# Altium footprint library NPN_S8050.PcbLib: 1 footprints
Each footprint in its own frame and in the unit in brackets; x right, y up, seen from the top. Pads: shape width x height; smd on the part's side, far side on the other; paste and mask are expansions set on the pad; w line width, h text height; cw(c..) or ccw(c..) is an arc to the next point about the centre after c.
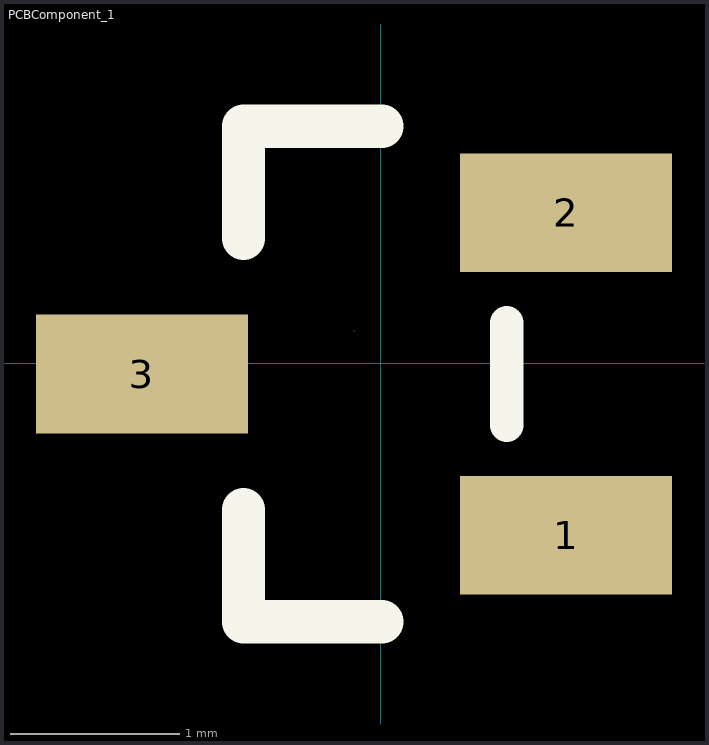
[diagram p0: the footprint, top view; thin cyan lines are the x and y axes]

## PCBComponent_1 [mm]
pads (3):
  rect 1.25x0.7 smd paste+0 mask+0.102: 1(1.092,-1.014) 2(1.092,0.886) 3(-1.407,-0.064)
Top Overlay:
  lines w0.2: 0.743,-0.364 0.743,0.236
  lines w0.254: -0.807,-0.864 -0.807,-1.524 0.008,-1.524 ; 0.008,1.396 -0.807,1.396 ; -0.807,0.736 -0.807,1.396 ; -0.807,0.736 -0.807,1.396 ; -0.807,0.736 -0.807,1.396
Mechanical 15:
  lines w0.003: -0.158,0.19 -0.157,0.191